# Altium footprint library DO35 Schottky二极管.PcbLib: 1 footprints
Each footprint in its own frame and in the unit in brackets; x right, y up, seen from the top. Pads: shape width x height; smd on the part's side, far side on the other; paste and mask are expansions set on the pad; w line width, h text height; cw(c..) or ccw(c..) is an arc to the next point about the centre after c.
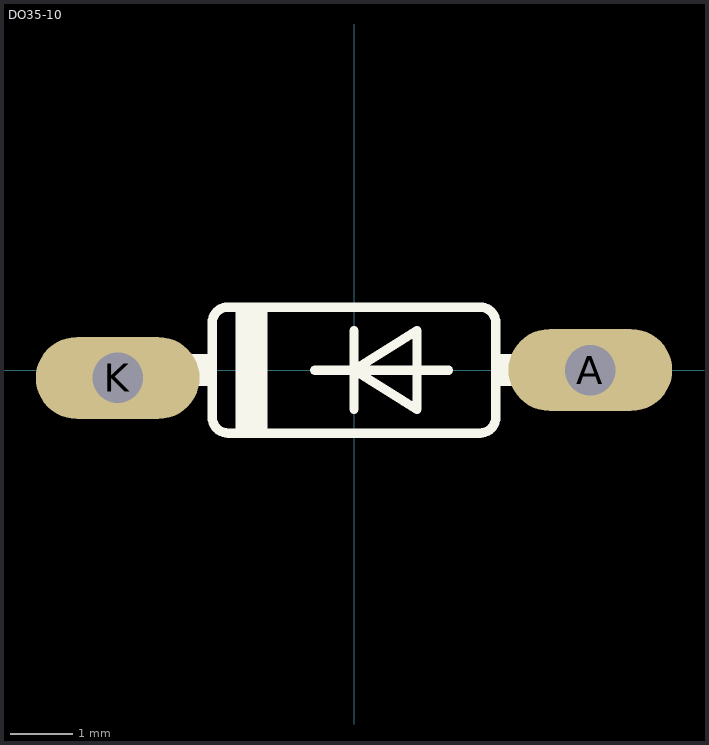
[diagram p0: the footprint, top view; thin cyan lines are the x and y axes]

## DO35-10 [mil]
pads (2):
  oval 104x52 hole 32: A(150,0) K(-150,-5)
Top Overlay:
  region: -90,-10 -135,-10 -135,10 -90,10
  region: 135,-10 90,-10 90,10 135,10
  region: -55,-40 -75,-40 -75,40 -55,40
  lines w6: -25,0 0,0 ; 0,-25 0,0 ; 0,25 0,0 ; 60,0 0,0 ; 0,0 40,25 40,-25 0,0 ; -90,-30 ccw(c-80,-30) -80,-40 80,-40 ccw(c80,-30) 90,-30 90,30 ccw(c80,30) 80,40 -80,40 ccw(c-80,30) -90,30 -90,-30
3D body "User Library-DO-204AH (DO-35).step": height 86.72, standoff -70.87, extent -160.24,-39.76 160.24,39.76